# Altium footprint library WL-SMTD.PcbLib: 6 footprints
Each footprint in its own frame and in the unit in brackets; x right, y up, seen from the top. Pads: shape width x height; smd on the part's side, far side on the other; paste and mask are expansions set on the pad; w line width, h text height; cw(c..) or ccw(c..) is an arc to the next point about the centre after c.
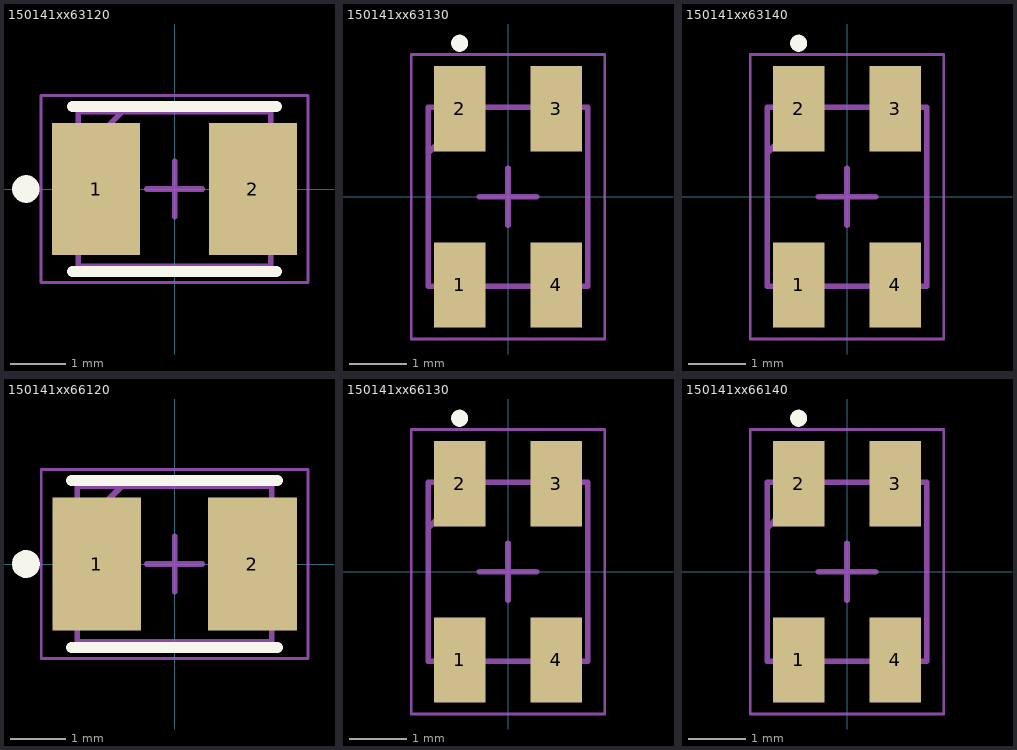
[diagram p0: the footprints below, top view; thin cyan lines are the x and y axes]

## 150141xx63120 [mm] "SMT Mono-color TOP LED Diffused Dome, body 3.50 x 2.80 mm"
height 3.4
pads (2):
  rect 1.6x2.4 smd: 1(-1.425,0) 2(1.425,0)
Top Overlay:
  circle w0.25: c-2.7,0 r0.125
  lines w0.2: -1.85,-1.5 1.85,-1.5 ; -1.85,1.5 1.85,1.5
Top Assembly:
  lines w0.1: -1.75,0.6 -0.95,1.4 ; -1.75,-1.4 -1.75,1.4 1.75,1.4 1.75,-1.4 -1.75,-1.4
Top Designator:
  text ".Designator" at -3.647,-0.357 h1
Top Courtyard:
  lines w0.05: -2.425,-1.7 -2.425,1.7 2.425,1.7 2.425,-1.7 -2.425,-1.7
Top Component Center:
  lines w0.1: -0.5,0 0.5,0 ; 0,-0.5 0,0.5
3D body "150141xx63120.stp": height 3.4, standoff 0, extent -1.75,-1.4 1.75,1.4

## 150141xx63130 [mm] "SMT Mono-color TOP LED Diffused Dome, body 3.50 x 2.80 mm"
height 3.5
pads (4):
  rect 0.9x1.5 smd: 1(-0.85,-1.55) 2(-0.85,1.55) 3(0.85,1.55) 4(0.85,-1.55)
Top Overlay:
  circle w0.15: c-0.85,2.7 r0.075
Top Assembly:
  lines w0.1: -1.4,0.775 -0.6,1.575 ; -1.4,-1.575 1.4,-1.575 1.4,1.575 -1.4,1.575 -1.4,-1.575
Top Designator:
  text ".Designator" at -3.647,-0.357 h1
Top Courtyard:
  lines w0.05: -1.7,-2.5 1.7,-2.5 1.7,2.5 -1.7,2.5 -1.7,-2.5
Top Component Center:
  lines w0.1: -0.5,0 0.5,0 ; 0,-0.5 0,0.5
3D body "150141xx63140.stp": height 3.5, standoff 0, extent -1.4,-1.75 1.4,1.75

## 150141xx63140 [mm] "SMT Mono-color TOP LED Diffused Dome, body 3.50 x 2.80 mm"
height 3.5
pads (4):
  rect 0.9x1.5 smd: 1(-0.85,-1.55) 2(-0.85,1.55) 3(0.85,1.55) 4(0.85,-1.55)
Top Overlay:
  circle w0.15: c-0.85,2.7 r0.075
Top Assembly:
  lines w0.1: -1.4,0.775 -0.6,1.575 ; -1.4,-1.575 -1.4,1.575 1.4,1.575 1.4,-1.575 -1.4,-1.575
Top Designator:
  text ".Designator" at -3.647,-0.357 h1
Top Courtyard:
  lines w0.05: -1.7,-2.5 -1.7,2.5 1.7,2.5 1.7,-2.5 -1.7,-2.5
Top Component Center:
  lines w0.1: -0.5,0 0.5,0 ; 0,-0.5 0,0.5
3D body "150141xx63140.stp": height 3.5, standoff 0, extent -1.4,-1.75 1.4,1.75

## 150141xx66120 [mm] "SMT Mono-color TOP LED Diffused Dome, body 3.50 x 2.80 mm"
height 3.2
pads (2):
  rect 1.6x2.4 smd: 1(-1.4,0) 2(1.4,0)
Top Overlay:
  circle w0.25: c-2.675,0 r0.125
  lines w0.2: -1.85,-1.5 1.85,-1.5 ; -1.85,1.5 1.85,1.5
Top Assembly:
  lines w0.1: -1.75,0.6 -0.95,1.4 ; -1.75,-1.4 -1.75,1.4 1.75,1.4 1.75,-1.4 -1.75,-1.4
Top Designator:
  text ".Designator" at -3.647,-0.357 h1
Top Courtyard:
  lines w0.05: -2.4,-1.7 -2.4,1.7 2.4,1.7 2.4,-1.7 -2.4,-1.7
Top Component Center:
  lines w0.1: -0.5,0 0.5,0 ; 0,-0.5 0,0.5
3D body "150141xx66120.stp": height 3.2, standoff 0, extent -1.75,-1.4 1.75,1.4

## 150141xx66130 [mm] "SMT Mono-color TOP LED Diffused Dome, body 3.50 x 2.80 mm"
height 3.25
pads (4):
  rect 0.9x1.5 smd: 1(-0.85,-1.55) 2(-0.85,1.55) 3(0.85,1.55) 4(0.85,-1.55)
Top Overlay:
  circle w0.15: c-0.85,2.7 r0.075
Top Assembly:
  lines w0.1: -1.4,0.775 -0.6,1.575 ; -1.4,-1.575 1.4,-1.575 1.4,1.575 -1.4,1.575 -1.4,-1.575
Top Designator:
  text ".Designator" at -3.647,-0.357 h1
Top Courtyard:
  lines w0.05: -1.7,-2.5 1.7,-2.5 1.7,2.5 -1.7,2.5 -1.7,-2.5
Top Component Center:
  lines w0.1: -0.5,0 0.5,0 ; 0,-0.5 0,0.5
3D body "150141xx63140.stp": height 3.5, standoff 0, extent -1.4,-1.75 1.4,1.75

## 150141xx66140 [mm] "SMT Mono-color TOP LED Diffused Dome, body 3.50 x 2.80 mm"
height 3.25
pads (4):
  rect 0.9x1.5 smd: 1(-0.85,-1.55) 2(-0.85,1.55) 3(0.85,1.55) 4(0.85,-1.55)
Top Overlay:
  circle w0.15: c-0.85,2.7 r0.075
Top Assembly:
  lines w0.1: -1.4,0.775 -0.6,1.575 ; -1.4,-1.575 1.4,-1.575 1.4,1.575 -1.4,1.575 -1.4,-1.575
Top Designator:
  text ".Designator" at -3.647,-0.357 h1
Top Courtyard:
  lines w0.05: -1.7,-2.5 1.7,-2.5 1.7,2.5 -1.7,2.5 -1.7,-2.5
Top Component Center:
  lines w0.1: -0.5,0 0.5,0 ; 0,-0.5 0,0.5
3D body "150141xx63140.stp": height 3.5, standoff 0, extent -1.4,-1.75 1.4,1.75